# Altium footprint library SnapEDApcb.PcbLib: 1 footprints
Each footprint in its own frame and in the unit in brackets; x right, y up, seen from the top. Pads: shape width x height; smd on the part's side, far side on the other; paste and mask are expansions set on the pad; w line width, h text height; cw(c..) or ccw(c..) is an arc to the next point about the centre after c.
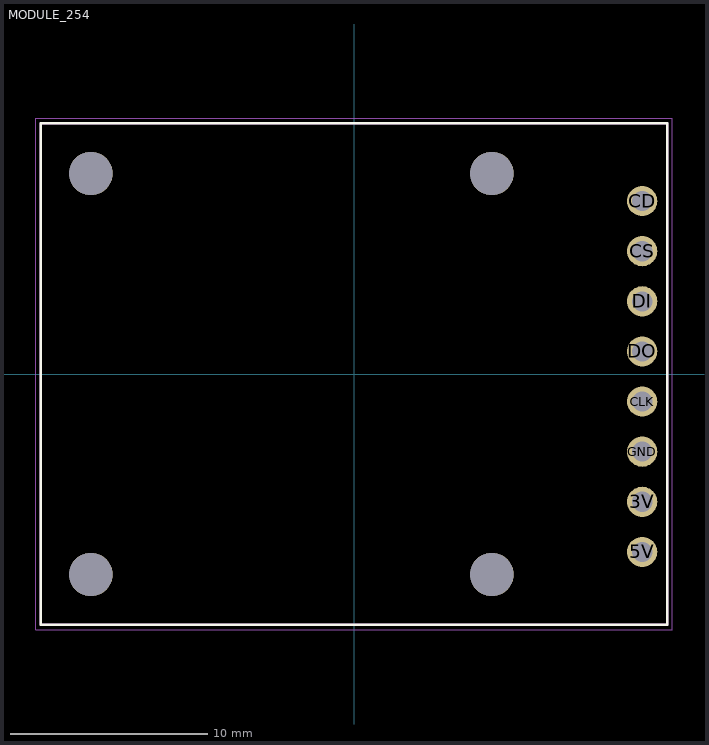
[diagram p0: the footprint, top view; thin cyan lines are the x and y axes]

## MODULE_254 [mm]
pads (12):
  round 1.53 hole 1.02: 3V(14.605,-6.477) 5V(14.605,-9.017) CD(14.605,8.763) CLK(14.605,-1.397) CS(14.605,6.223) DI(14.605,3.683) DO(14.605,1.143) GND(14.605,-3.937)
  round 2.2 hole 2.2 unplated: ""(-13.335,-10.16) ""(-13.335,10.16) ""(6.985,-10.16) ""(6.985,10.16)
Top Overlay:
  lines w0.127: -15.875,-12.7 -15.875,12.7 15.875,12.7 15.875,-12.7 -15.875,-12.7
Mechanical 13:
  lines w0.127: -15.875,-12.7 15.875,-12.7 15.875,12.7 -15.875,12.7 -15.875,-12.7
Mechanical 15:
  lines w0.05: -16.125,-12.95 16.125,-12.95 16.125,12.95 -16.125,12.95 -16.125,-12.95